# EAGLE library part TL497A (library ICs)
500mA peak, step-up, step-down, inverting switching voltage regulator.
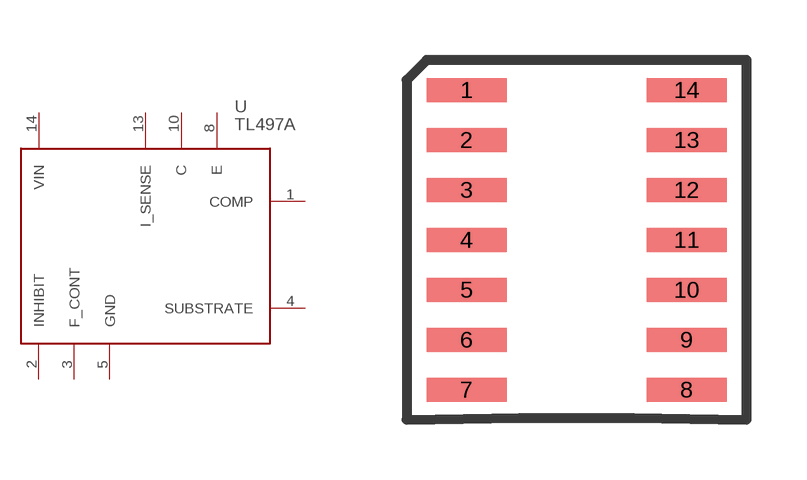
[diagram p36: symbol with the pads of SO14; footprint SO14]

Designator prefix U

## TL497ACD (FARNELL: 1648666)  [SO14]
1  COMP
2  INHIBIT
3  F_CONT
4  SUBSTRATE
5  GND
8  E
10  C
13  I_SENSE
14  VIN

## Footprint SO14 (pad centres in mm)
smd 2 x 0.6: 1 -2.75,3.75; 2 -2.75,2.5; 3 -2.75,1.25; 4 -2.75,0; 5 -2.75,-1.25; 6 -2.75,-2.5; 7 -2.75,-3.75; 8 2.75,-3.75; 9 2.75,-2.5; 10 2.75,-1.25; 11 2.75,0; 12 2.75,1.25; 13 2.75,2.5; 14 2.75,3.75